# EAGLE library part RR4 (library rf)
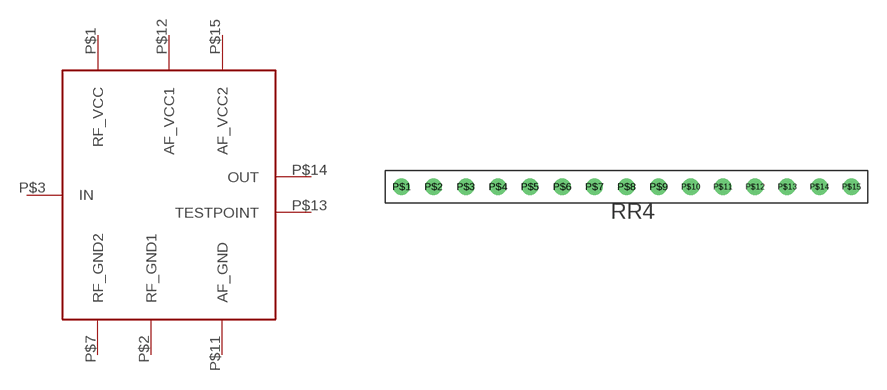
[diagram p0: symbol with the pads of SIL15; footprint SIL15]

Designator prefix -

## RR4  [SIL15]
P$1  RF_VCC
P$2  RF_GND1
P$3  IN
P$7  RF_GND2
P$11  AF_GND
P$12  AF_VCC1
P$13  TESTPOINT
P$14  OUT
P$15  AF_VCC2

## Footprint SIL15 (pad centres in mm)
drill 0.8 round: P$1 -17.78,0; P$2 -15.24,0; P$3 -12.7,0; P$4 -10.16,0; P$5 -7.62,0; P$6 -5.08,0; P$7 -2.54,0; P$8 0,0; P$9 2.54,0; P$10 5.08,0; P$11 7.62,0; P$12 10.16,0; P$13 12.7,0; P$14 15.24,0; P$15 17.78,0